# EAGLE library part ATBTLC1000-ZR110CA (library ringRemote)
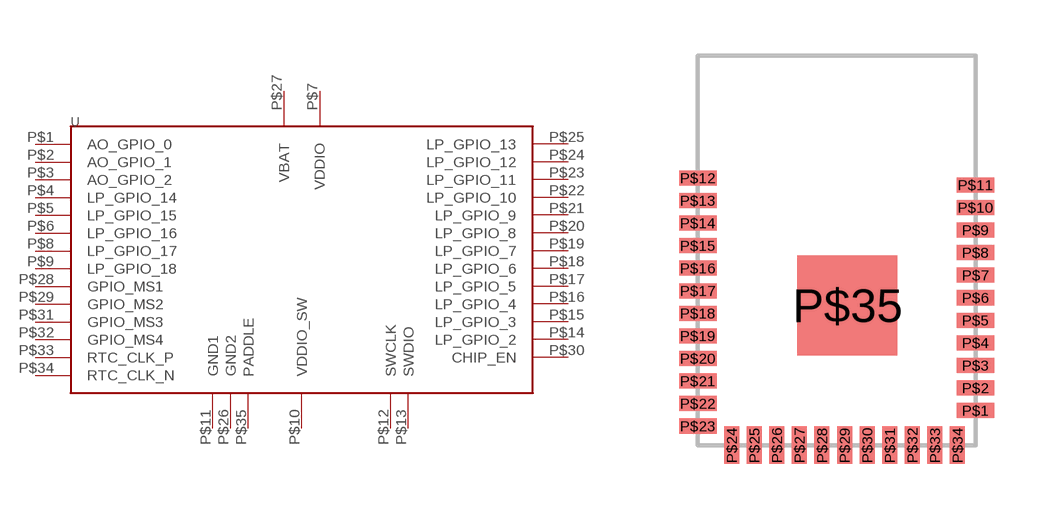
[diagram p1: symbol with the pads of ATBTLC1000-ZR110CA; footprint ATBTLC1000-ZR110CA]

Designator prefix -

## ATBTLC1000-ZR110CA  [ATBTLC1000-ZR110CA]
P$1  AO_GPIO_0
P$2  AO_GPIO_1
P$3  AO_GPIO_2
P$4  LP_GPIO_14
P$5  LP_GPIO_15
P$6  LP_GPIO_16
P$7  VDDIO  pwr
P$8  LP_GPIO_17
P$9  LP_GPIO_18
P$10  VDDIO_SW
P$11  GND1  pwr
P$12  SWCLK
P$13  SWDIO
P$14  LP_GPIO_2
P$15  LP_GPIO_3
P$16  LP_GPIO_4
P$17  LP_GPIO_5
P$18  LP_GPIO_6
P$19  LP_GPIO_7
P$20  LP_GPIO_8
P$21  LP_GPIO_9
P$22  LP_GPIO_10
P$23  LP_GPIO_11
P$24  LP_GPIO_12
P$25  LP_GPIO_13
P$26  GND2  pwr
P$27  VBAT  pwr
P$28  GPIO_MS1
P$29  GPIO_MS2
P$30  CHIP_EN
P$31  GPIO_MS3
P$32  GPIO_MS4
P$33  RTC_CLK_P  in
P$34  RTC_CLK_N
P$35  PADDLE  pwr

## Footprint ATBTLC1000-ZR110CA (pad centres in mm)
smd 1.016 x 0.406: P$1 3.462,-2.836; P$2 3.462,-2.225; P$3 3.462,-1.615; P$4 3.462,-1.006; P$5 3.462,-0.396; P$6 3.462,0.214; P$7 3.462,0.825; P$8 3.462,1.435; P$9 3.462,2.045; P$10 3.462,2.655; P$11 3.462,3.264; P$12 -4.042,3.453; P$13 -4.042,2.842; P$14 -4.042,2.232; P$15 -4.042,1.623; P$16 -4.042,1.012; P$17 -4.042,0.403; P$18 -4.042,-0.207; P$19 -4.042,-0.818; P$20 -4.042,-1.427; P$21 -4.042,-2.038; P$22 -4.042,-2.647; P$23 -4.042,-3.257
smd 0.406 x 1.016: P$24 -3.127,-3.776; P$25 -2.518,-3.776; P$26 -1.907,-3.776; P$27 -1.298,-3.776; P$28 -0.688,-3.776; P$29 -0.077,-3.776; P$30 0.532,-3.776; P$31 1.143,-3.776; P$32 1.752,-3.776; P$33 2.362,-3.776; P$34 2.973,-3.776
smd 2.705 x 2.705: P$35 0,0